# Altium footprint library Altium_Library.PcbLib: 1 footprints
Each footprint in its own frame and in the unit in brackets; x right, y up, seen from the top. Pads: shape width x height; smd on the part's side, far side on the other; paste and mask are expansions set on the pad; w line width, h text height; cw(c..) or ccw(c..) is an arc to the next point about the centre after c.
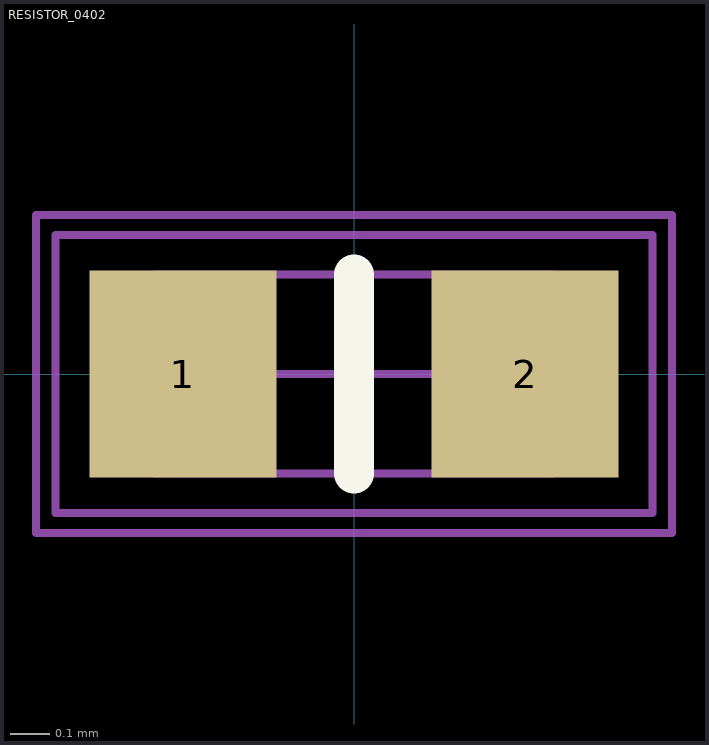
[diagram p0: the footprint, top view; thin cyan lines are the x and y axes]

## RESISTOR_0402 [mm] "Chip Resistor, IPC High Density"
pads (2):
  rect 0.47x0.52 smd mask+0.01: 1(-0.43,0) 2(0.43,0)
Top Overlay:
  lines w0.1: 0,-0.25 0,0.25
Top Courtyard:
  lines w0.02: -0.2,0 0.2,0 ; 0,-0.2 0,0.2 ; -0.8,-0.4 0.8,-0.4 0.8,0.4 -0.8,0.4 -0.8,-0.4
Top Assembly:
  lines w0.02: -0.8,-0.4 0.8,-0.4 0.8,0.4 -0.8,0.4 -0.8,-0.4
Bottom Assembly:
  lines w0.02: -0.25,0 0.25,0 ; 0,-0.25 0,0.25 ; -0.75,-0.35 0.75,-0.35 0.75,0.35 -0.75,0.35 -0.75,-0.35
Top Component Center:
  lines w0.02: -0.2,0 0.2,0 ; 0,-0.2 0,0.2
Top Component Outline:
  lines w0.02: -0.5,-0.25 -0.5,0.25 0.5,0.25 0.5,-0.25 -0.5,-0.25
Top Designator:
  text ".Designator" at -1.804,-0.931 h0.8
3D body "0402CRCW.step": height 0.35, standoff -0.01, extent -0.5,-0.25 0.5,0.25